# EAGLE library part 2P2T_SWITCH (library HomeMade)
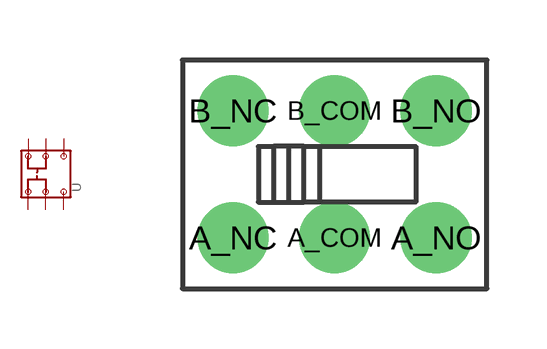
[diagram p3: symbol with the pads of 2P2T; footprint 2P2T]

Designator prefix -

## 2P2T_SWITCH  [2P2T]
A_COM  A_COM
A_NC  A_NC
A_NO  A_NO
B_COM  B_COM
B_NC  B_NC
B_NO  B_NO

## Footprint 2P2T (pad centres in mm)
drill 0.8 pad 1.778: A_COM 2.54,0; A_NC 0,0; A_NO 5.08,0; B_COM 2.54,3.175; B_NC 0,3.175; B_NO 5.08,3.175